# Altium schematic symbol library robot-cortex.SchLib: 41 symbols
Pins are listed as number, name and electrical type; pins without a type are passive.

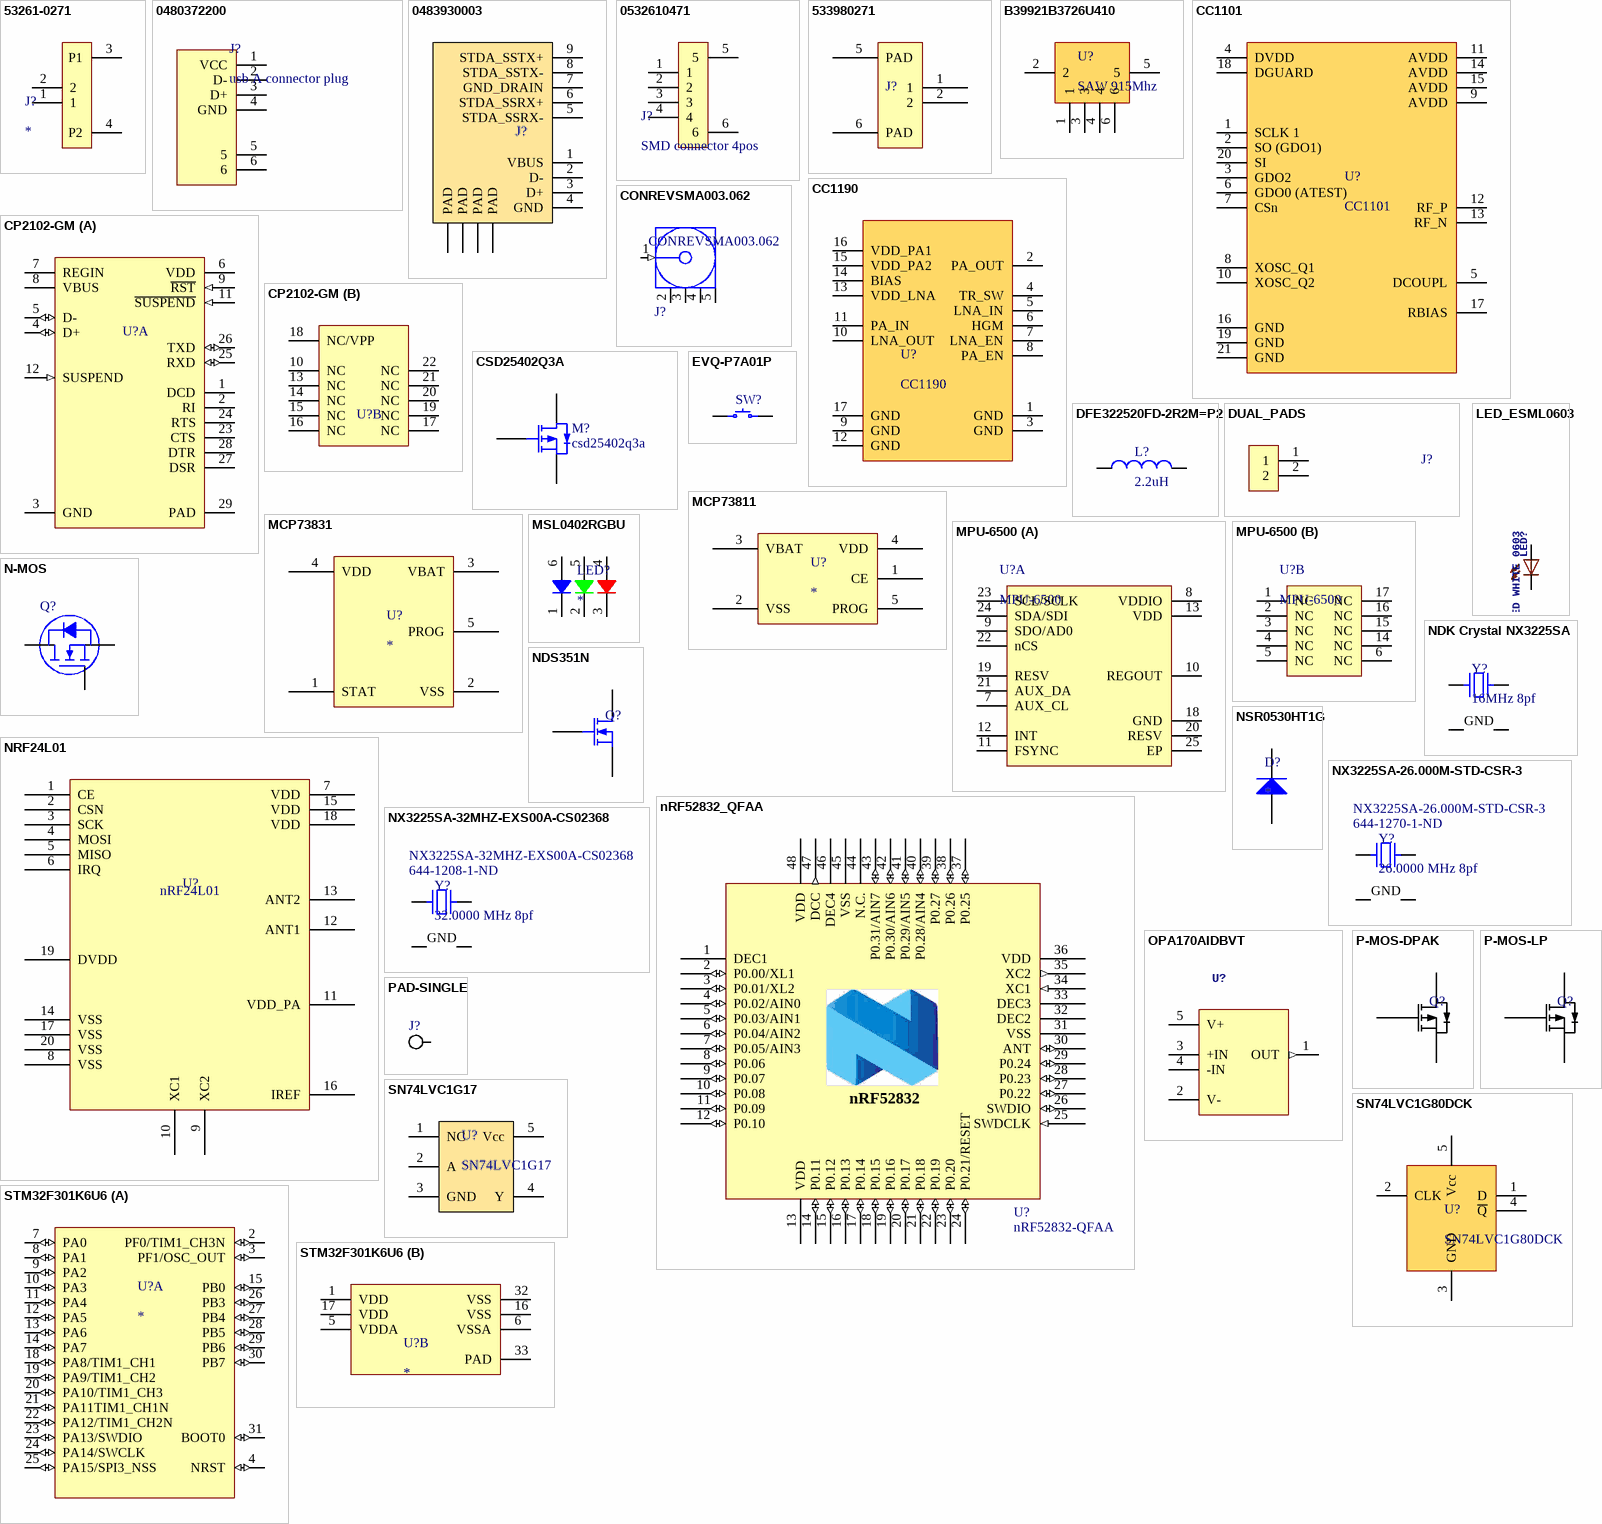
[diagram p0: symbols 53261-0271 to STM32F301K6U6]

## 53261-0271
designator J?
Headers & Wire Housings 1.25MM HDR 2 CKT Right-Angle; Manufacturer: Molex; Manufacturer Part Number 1: 53261-0271; Gender: Male; Voltage Rating: 125V; Number of Positions: 2; Current Rating: 1A; Contact Resistance: 20mR; Insulation Resistance: 100MR; Glow Wire Compliant: Non-compliant; Supplier 1: Digi-Key; Supplier Part Number 1: WM7620TR-ND; Description 1: Headers & Wire Housings 1.25MM HDR 2 CKT Right-Angle; Stock: 85000; Pricing: 1000=0.4904, 2000=0.45975, 3000=0.44443, 5000=0.4291, 10000=0.40765, 25000=0.39845 (USD); Mount: Surface Mount; Color: Beige; Housing Material: Thermoplastic; Contact Material: Bronze,Tin; Contact Plating: Tin; Min Operating Temperature: -40°C; Max Operating Temperature: 85°C; Packaging: Tape and Reel; Termination: SMD/SMT; Number of Rows: 1; Number of Contacts: 2; Orientation: Right Angle; Package Quantity: 1000; Voltage Rating (AC): 125V; Number of Circuits: 2; Voltage Rating (DC): 125V; Working Voltage: 125V; Pitch: 1.25mm; Lead Pitch: 1.25mm; Radiation Hardening: No; REACH SVHC: Unknown; Lead Free: Lead Free; Flammability Rating: UL94 V-0; ComponentLink1URL: http://uk.rs-online.com/webdocs/13c4/0900766b813c44b8.pdf; ComponentLink1Description: http://uk.rs-online.com/webdocs/13c4/0900766b813c44b8.pdf; ComponentLink2URL: http://www.molex.com/webdocs/datasheets/pdf/en-us/0532610271_PCB_HEADERS.pdf; ComponentLink2Description: http://www.molex.com/webdocs/datasheets/pdf/en-us/0532610271_PCB_HEADERS.pdf; ComponentLink3URL: http://www.alliedelec.com/m/d/74d14d19c60ab078e4881c4c1bd42ef7.pdf; ComponentLink3Description: http://www.alliedelec.com/m/d/74d14d19c60ab078e4881c4c1bd42ef7.pdf; ComponentLink4URL: http://www.farnell.com/datasheets/2697765.pdf; ComponentLink4Description: http://www.farnell.com/datasheets/2697765.pdf; ComponentLink5URL: http://www.farnell.com/datasheets/2144535.pdf; ComponentLink5Description: http://www.farnell.com/datasheets/2144535.pdf; ComponentLink6URL: http://www.farnell.com/datasheets/1626147.pdf; ComponentLink6Description: http://www.farnell.com/datasheets/1626147.pdf; ComponentLink7URL: http://www.mouser.com/ds/2/276/0532610271_PCB_HEADERS-171053.pdf; ComponentLink7Description: http://www.mouser.com/ds/2/276/0532610271_PCB_HEADERS-171053.pdf; ComponentLink8URL: http://www.farnell.com/datasheets/2038817.pdf; ComponentLink8Description: http://www.farnell.com/datasheets/2038817.pdf; ComponentLink9URL: http://www.jameco.com/Jameco/Products/ProdDS/1932547.pdf; ComponentLink9Description: http://www.jameco.com/Jameco/Products/ProdDS/1932547.pdf
footprint 0532610271
footprint 533980271
pins: 1 (power), 2 (power), 3 P1 (power), 4 P2 (power)

## 0480372200
designator J?, comment usb A connector plug
footprint 0480372200
pins: 1 VCC, 2 D-, 3 D+, 4 GND, 5, 6

## 0483930003
designator J?  (value not drawn)
Conn USB Type A F 9 POS 2mm/2.5mm Solder RA Thru-Hole 9 Terminal 1 Port Embossed T/R; Manufacturer: Molex; Number of Contacts: 9; Gender: Receptacle; Supplier 1: Digi-Key; Manufacturer Part Number: 0483930003; RoHS: Yes; Category: Connectors; Stock 1: 7788; Pricing 1: 1=1.74000, 10=1.57900, 25=1.48240, 50=1.41780, 100=1.35340 (USD); Mount: Through Hole,Horizontal; Packaging: Tape and Reel; Termination: Solder; Orientation: Right Angle; Connector Type: USB; Package Quantity: 300; Radiation Hardening: No; ComponentLink1URL: https://datasheet.ciiva.com/29660/987651-0181-29660134.pdf?src-supplier=Digi-Key; ComponentLink1Description: https://datasheet.ciiva.com/29660/987651-0181-29660134.pdf?src-supplier=Digi-Key; ComponentLink2URL: https://datasheet.ciiva.com/29660/987651-0181-29660135.pdf?src-supplier=Digi-Key; ComponentLink2Description: https://datasheet.ciiva.com/29660/987651-0181-29660135.pdf?src-supplier=Digi-Key; Supplier Part Number 1: WM10413CT-ND
footprint 0483930003
pins: 1 VBUS, 2 D-, 3 D+, 4 GND, 5 STDA_SSRX-, 6 STDA_SSRX+, 7 GND_DRAIN, 8 STDA_SSTX-, 9 STDA_SSTX+, 10 PAD, 11 PAD, 12 PAD, 13 PAD

## 0532610471
designator J?, comment SMD connector 4pos
Headers & Wire Housings 1.25MM HDR 4 CKT Right-Angle; Manufacturer: Molex; Manufacturer Part Number 1: 53261-0471; Contact Resistance: 20mR; Number of Positions: 4; Current Rating: 1A; Voltage Rating (AC): 125V; Insulation Resistance: 100MR; Gender: Male; Glow Wire Compliant: Non-compliant; Supplier 1: Digi-Key; Supplier Part Number 1: WM7622DKR-ND; Description 1: Headers & Wire Housings 1.25MM HDR 4 CKT Right-Angle; Stock: 42057; Pricing: 1=1.24, 10=1.089, 100=0.9397, 500=0.76884 (USD); Mount: Surface Mount; Contact Plating: Tin; Contact Material: Bronze,Tin; Color: Beige; Housing Material: Thermoplastic; Min Operating Temperature: -40°C; Max Operating Temperature: 85°C; Orientation: Right Angle; Number of Rows: 1; Packaging: Tape and Reel; Termination: SMD/SMT; Number of Contacts: 4; Voltage Rating: 125V; Package Quantity: 1000; Working Voltage: 125V; Number of Circuits: 4; Voltage Rating (DC): 125V; Pitch: 1.25mm; Lead Pitch: 1.25mm; Radiation Hardening: No; Flammability Rating: UL94 V-0; REACH SVHC: Unknown; Lead Free: Lead Free; ComponentLink1URL: http://www.mouser.com/ds/2/276/0532610471_PCB_HEADERS-170942.pdf; ComponentLink1Description: http://www.mouser.com/ds/2/276/0532610471_PCB_HEADERS-170942.pdf; ComponentLink2URL: http://uk.rs-online.com/webdocs/1380/0900766b8138010d.pdf; ComponentLink2Description: http://uk.rs-online.com/webdocs/1380/0900766b8138010d.pdf; ComponentLink3URL: http://www.farnell.com/datasheets/1867384.pdf; ComponentLink3Description: http://www.farnell.com/datasheets/1867384.pdf; ComponentLink4URL: http://www.molex.com/webdocs/datasheets/pdf/en-us/0532610471_PCB_HEADERS.pdf; ComponentLink4Description: http://www.molex.com/webdocs/datasheets/pdf/en-us/0532610471_PCB_HEADERS.pdf; ComponentLink5URL: https://www.alliedelec.com/m/d/74d14d19c60ab078e4881c4c1bd42ef7.pdf; ComponentLink5Description: https://www.alliedelec.com/m/d/74d14d19c60ab078e4881c4c1bd42ef7.pdf; ComponentLink6URL: http://www.jameco.com/Jameco/Products/ProdDS/1932555.pdf; ComponentLink6Description: http://www.jameco.com/Jameco/Products/ProdDS/1932555.pdf
footprint 0532610471
pins: 1 (power), 2 (power), 3 (power), 4 (power), 5 (power), 6 (power)

## 533980271
designator J?, comment 4p conn  (value not drawn)
footprint 533980271
pins: 1, 2, 5 PAD, 6 PAD

## B39921B3726U410
designator U?, comment SAW 915Mhz
FILTER SAW 915MHZ REMOTE SMD; Manufacturer: TDK EPCOS; Manufacturer Part Number: B39921B3726U410; Load Impedance: 50R; Bandwidth: 10MHz; Insertion Loss: 2.6dB; Supplier 1: Newark; RoHS: Yes; Category: EMI / RFI Components; Mount: Surface Mount; Case/Package: SMD/SMT; Number of Pins: 6; Min Operating Temperature: -45°C; Max Operating Temperature: 125°C; Package Quantity: 9000; Frequency: 915MHz; Impedance: 50R; Packaging: Tape and Reel; Termination: SMD/SMT; Series: *; Length: 3mm; Width: 0.118inch; Height: 1.1mm; Ratings: AEC-Q200; Radiation Hardening: No; Lead Free: Lead Free; ComponentLink1URL: https://datasheet.ciiva.com/3073/b3726-3073185.pdf?src-supplier=Avnet; ComponentLink1Description: https://datasheet.ciiva.com/3073/b3726-3073185.pdf?src-supplier=Avnet; ComponentLink2URL: https://datasheet.ciiva.com/4548/b3726-58910-4548209.pdf?src-supplier=Mouser; ComponentLink2Description: https://datasheet.ciiva.com/4548/b3726-58910-4548209.pdf?src-supplier=Mouser; ComponentLink3URL: https://datasheet.ciiva.com/15161/getdatasheetpartid-330732-15161563.pdf?src-supplier=Verical; ComponentLink3Description: https://datasheet.ciiva.com/15161/getdatasheetpartid-330732-15161563.pdf?src-supplier=Verical; ComponentLink4URL: https://datasheet.ciiva.com/16628/b3726-16628731.pdf?src-supplier=Avnet+Europe; ComponentLink4Description: https://datasheet.ciiva.com/16628/b3726-16628731.pdf?src-supplier=Avnet+Europe; ComponentLink5URL: https://datasheet.ciiva.com/6203/b3726-6203485.pdf?src-supplier=Digi-Key; ComponentLink5Description: https://datasheet.ciiva.com/6203/b3726-6203485.pdf?src-supplier=Digi-Key; Supplier Part Number 1: 50R8492
footprint DCC6C
pins: 1, 2, 3, 4, 5, 6

## CC1101
designator U?
RF Transceiver IC
footprint QFN20-TI (PQFN, 20-Leads, Body 4.00x4.00mm, Pitch 0.50mm, Thermal Pad 2.40x2.40mm, IPC High Density)
pins: 1 SCLK 1, 2 SO (GDO1), 3 GDO2, 4 DVDD, 5 DCOUPL, 6 GDO0 (ATEST), 7 CSn, 8 XOSC_Q1, 9 AVDD, 10 XOSC_Q2, 11 AVDD, 12 RF_P, 13 RF_N, 14 AVDD, 15 AVDD, 16 GND, 17 RBIAS, 18 DGUARD, 19 GND, 20 SI, 21 GND

## CC1190
designator U?
RF frontend
footprint QFN16-TI (PQFN, 16-Leads, Body 4.00x4.00mm, Pitch 0.65mm, Thermal Pad 2.16x2.16mm, IPC High Density)
pins: 1 GND, 2 PA_OUT, 3 GND, 4 TR_SW, 5 LNA_IN, 6 HGM, 7 LNA_EN, 8 PA_EN, 9 GND, 10 LNA_OUT, 11 PA_IN, 12 GND, 13 VDD_LNA, 14 BIAS, 15 VDD_PA2, 16 VDD_PA1, 17 GND

## CONREVSMA003.062
designator J?
RP-SMA Female Edge Mount Connector for 0.062" Thick Board; PCB_Layout: Pads complies with manufacturer's recommendation.; PackageVersion: rev1.0, Jun-2006; DatasheetVersion: rev1.0, Jun-2006; PackageDescription: SMA Female Edge Mount for Connector 0.062" Thick Board, Reverse-polarity, 7.9 mm Body Dia.; PackageReference: CON-SMA-EDGE062; PartNumber: CONREVSMA003.062
footprint CON-SMA-EDGE062
pins: 1 Signal (in) "Signal Pin", 2 GND (power), 3 GND (power), 4 GND (power), 5 GND (power)

## CP2102-GM
designator U?  (value not drawn)
USB-UART Bridge
footprint QFN28 (QFN, 28-Leads, Body 5.00x5.00mm, Pitch 0.50mm, Thermal Pad 3.13x3.13mm, IPC High Density)
part A pins: 1 DCD (power), 2 RI (power), 3 GND (power), 4 D+ (io), 5 D- (io), 6 VDD (power), 7 REGIN (power), 8 VBUS (power), 9 ~{RST} (in), 11 ~{SUSPEND} (in), 12 SUSPEND (in), 23 CTS (power), 24 RTS (power), 25 RXD (io), 26 TXD (io), 27 DSR (power), 28 DTR (power), 29 PAD (power)
part B pins: 10 NC (power), 13 NC (power), 14 NC (power), 15 NC (power), 16 NC (power), 17 NC (power), 18 NC/VPP (power), 19 NC (power), 20 NC (power), 21 NC (power), 22 NC (power)

## CSD25402Q3A
designator M?, comment csd25402q3a
footprint SON65P330X90-8N (SON, 8-Leads, Body 3.15x3.30mm, Pitch 0.65mm, IPC Medium Density)
pins: 1 D, 2 G, 3 S

## DFE322520FD-2R2M=P2
designator L?, comment 2.2uH
2.2uH 1210
footprint L1210 (Chip Inductor, 2-Leads, Body 3.20x2.50mm, IPC High Density)
pins: 1, 2

## DUAL_PADS
designator J?, comment Header 2  (value not drawn)
footprint DUAL_PADS
pins: 1 (power), 2 (power)

## EVQ-P7A01P
designator SW?
SWITCH TACTILE SPST-NO 50MA 32V; Manufacturer: ITT C&K; Manufacturer Part Number: KMR742NGLFS; Mechanical Life: 200000Cycles; Illumination Type: Non-Illuminated; Operating Force: 400gf; Throw Configuration: SPST; Switch Function: Off-Mom; Actuator Type: Standard; Ratings: IP67,Waterproof,Dust Tight; Supplier 1: Digi-Key; Supplier Part Number 1: CKN10689CT-ND; Stock 1: 44684; Pricing 1: 1=0.35, 10=0.343, 25=0.3304, 50=0.3182, 100=0.306, 250=0.28152, 500=0.24482, 1000=0.20809 (USD); Mount: Surface Mount; Min Operating Temperature: -40°C; Max Operating Temperature: 85°C; Packaging: Tape and Reel; Termination: Gull Wing
footprint EVQ-P7A01P
pins: 1, 2

## LED_ESML0603
designator LED?, comment LED WHITE 0603
LED   Source: http://www.osram.convergy.de   Source: www.luxeon.com   Source: www.kingbright.com; Manufacturer: Dialight; Manufacturer Part Number: 5988070107F; Description 1: DIALIGHT - 5988070107F - LED, 0603, GREEN, 20MCD, 566NM; Color: Green; Lens Color: Colorless,Clear; Forward Voltage: 2V; Forward Current: 20mA; Wavelength: 570nm; Luminous Intensity: 20mcd; Viewing Angle: 140°; Lens Style: Flat,Rectangular,Diffused,Colorless,Clear; Dominant Wavelength: 568nm; Number of Elements: 1; Power Dissipation: 60mW; Reverse Voltage: 5V; Lens Transparency: Clear; Lens Size: 0.8mm; SPICEMODEL: NONE; SPICEPREFIX: D; SPICETYPE: diode; Supplier 1: Digi-Key; Supplier Part Number 1: 350-2035-6-ND; Stock: 221494; Pricing: 1=0.48, 10=0.346, 25=0.2652, 100=0.1731, 250=0.12692, 500=0.1077, 1000=0.08846 (USD); Mount: Surface Mount; Case/Package: 0603; Number of Pins: 2; Case Code (Metric): 1608; Case Code (Imperial): 0603; Min Operating Temperature: -30°C; Max Operating Temperature: 100°C; Package Quantity: 4000; Packaging: Tape and Reel; Illumination Color: Green; Test Current: 20mA; Number of LEDs: 1; Length: 1.6mm; Height: 0.7mm; Depth: 0.8mm; Width: 0.8mm; Radiation Hardening: No; Lead Free: Lead Free; REACH SVHC: No SVHC; ComponentLink1URL: http://www.mouser.com/ds/2/109/SMT_selector_guide-267443.pdf?src-supplier=Mouser; ComponentLink1Description: http://www.mouser.com/ds/2/109/SMT_selector_guide-267443.pdf?src-supplier=Mouser; ComponentLink2URL: http://uk.rs-online.com/webdocs/0ae2/0900766b80ae2975.pdf?src-supplier=RSComponents; ComponentLink2Description: http://uk.rs-online.com/webdocs/0ae2/0900766b80ae2975.pdf?src-supplier=RSComponents; ComponentLink3URL: http://www.farnell.com/datasheets/1720200.pdf?src-supplier=Element14; ComponentLink3Description: http://www.farnell.com/datasheets/1720200.pdf?src-supplier=Element14; ComponentLink4URL: https://media.digikey.com/pdf/Data%20Sheets/Dialight%20PDFs/598_Series_0603_Pkg.pdf?src-supplier=Digi-Key; ComponentLink4Description: https://media.digikey.com/pdf/Data%20Sheets/Dialight%20PDFs/598_Series_0603_Pkg.pdf?src-supplier=Digi-Key; ComponentLink5URL: http://www.farnell.com/datasheets/1484480.pdf?src-supplier=Element14; ComponentLink5Description: http://www.farnell.com/datasheets/1484480.pdf?src-supplier=Element14; ComponentLink6URL: https://www.alliedelec.com/m/d/745256ca487aea7b70ea31e2d673d5bb.pdf?src-supplier=Allied+Electronics; ComponentLink6Description: https://www.alliedelec.com/m/d/745256ca487aea7b70ea31e2d673d5bb.pdf?src-supplier=Allied+Electronics; ComponentLink7URL: http://www.onlinecomponents.com/productFiles/mf-DIA/mdei5980603.pdf?src-supplier=Onlinecomponents.com; ComponentLink7Description: http://www.onlinecomponents.com/productFiles/mf-DIA/mdei5980603.pdf?src-supplier=Onlinecomponents.com; ComponentLink8URL: https://www.verical.com/server-webapp/html/getDatasheet?partID=146438&src-supplier=Verical; ComponentLink8Description: https://www.verical.com/server-webapp/html/getDatasheet?partID=146438&src-supplier=Verical; ComponentLink9URL: http://www.dialight.com/Assets/Brochures_And_Catalogs/Indication/SMT_selector_guide.pdf?src-supplier=Future+Electronics; ComponentLink9Description: http://www.dialight.com/Assets/Brochures_And_Catalogs/Indication/SMT_selector_guide.pdf?src-supplier=Future+Electronics
footprint LED_0603
pins: A, C

## MCP73811
designator U?
footprint SOT-23-5 (SOT23, 5-Leads, Body 2.90x2.70mm, Pitch 0.95mm, IPC High Density)
pins: 1 CE, 2 VSS, 3 VBAT, 4 VDD, 5 PROG

## MCP73831
designator U?
footprint SOT-23-5 (SOT23, 5-Leads, Body 2.90x2.70mm, Pitch 0.95mm, IPC High Density)
pins: 1 STAT, 2 VSS, 3 VBAT, 4 VDD, 5 PROG

## MPU-6500
designator U?
GYRO/ACCELEROMETER 6AXIS 24QFN; Manufacturer: TDK InvenSense; Sensor Type: Accelerometer,Gyroscope; Output Type: Digital; Operating Supply Voltage: 3.45V; Supplier 1: Digi-Key; Supplier Part Number 1: 1428-1011-1-ND; Manufacturer Part Number: MPU-6500; Stock 1: 29119; Pricing 1: 1=8.31, 5=7.288, 10=6.559, 25=5.83, 50=5.3928, 100=4.664, 500=4.3725, 1000=4.081 (USD); Mount: Surface Mount; Case/Package: QFN; Number of Pins: 24; Min Operating Temperature: -40°C; Max Operating Temperature: 85°C; Package Quantity: 5000; ComponentLink1URL: http://store.invensense.com/Datasheets/invensense/RM-MPU-6500A-00.pdf; ComponentLink1Description: http://store.invensense.com/Datasheets/invensense/RM-MPU-6500A-00.pdf
footprint QFN24 (QFN, 24-Leads, Body 3.00x3.00mm, Pitch 0.40mm, Thermal Pad 1.54x1.70mm, IPC Medium Density)
part A pins: 7 AUX_CL, 8 VDDIO, 9 SDO/AD0, 10 REGOUT, 11 FSYNC, 12 INT, 13 VDD, 18 GND, 19 RESV, 20 RESV, 21 AUX_DA, 22 nCS, 23 SCL/SCLK, 24 SDA/SDI, 25 EP
part B pins: 1 NC, 2 NC, 3 NC, 4 NC, 5 NC, 6 NC, 14 NC, 15 NC, 16 NC, 17 NC

## MSL0402RGBU
designator LED?
ROHM         MSL0402RGBU1             LED, Red, Green, Blue, SMD, Rectangular, R 20mA, G 20mA, B 20mA                          New; Color: Blue,Green,Red; Supplier 1: Digi-Key; Supplier Part Number 1: MSL0402RGBU1CT-ND; Manufacturer: Rohm; Manufacturer Part Number: MSL0402RGBU1; Stock 1: 23725; Pricing 1: 1=0.7, 10=0.549, 25=0.4576, 100=0.3942, 250=0.352, 500=0.30272, 1000=0.23373 (USD); Lens Style: Rectangular; Packaging: Cut Tape; REACH SVHC: No SVHC; Lead Free: Lead Free
footprint MSL0402RGBU
pins: 1, 2, 3 2, 4, 5, 6

## N-MOS
designator Q?, comment HP-MOS  (value not drawn)
Originally design used: CSD17577Q3A / Superior TI choice: CSD17579Q3A / Cheapest Option: AON7400B; Manufacturer: Alpha & Omega Semiconductor; Description 1: MOSFET N-CH 30V 30A 8DFN; Rds On Max: 7.5mR; Input Capacitance: 1.44nF; Drain to Source Voltage (Vdss): 30V; Continuous Drain Current (ID): 40A; Max Power Dissipation: 4.1W; Supplier 1: Digi-Key; Supplier Part Number 1: 785-1677-6-ND; Manufacturer Part Number: AON7400B; Stock: 5413; Pricing: 1=0.53, 10=0.415, 100=0.2848, 500=0.19528, 1000=0.14647, 2500=0.13426 (USD); Mount: Surface Mount; Min Operating Temperature: -55°C; Max Operating Temperature: 150°C; Package Quantity: 5000; Packaging: Tape and Reel; ComponentLink1URL: http://aosmd.com/res/data_sheets/AON7400B.pdf?src-supplier=Digi-Key; ComponentLink1Description: http://aosmd.com/res/data_sheets/AON7400B.pdf?src-supplier=Digi-Key
footprint VSON-8-NFET (QFN, 8-Leads, Body 3.30x3.30mm, Pitch 0.65mm, IPC High Density)
pins: D, G, S

## NDK Crystal NX3225SA
designator Y?, comment 16MHz 8pf
SMT Crystal; Manufacturer: NDK; Manufacturer Part Number: NX3225SA-16.000000MHZ-T1; Description 2: CRYSTAL 16.0000MHZ 10PF SMD; Frequency Tolerance: 10ppm; Load Capacitance: 10pF; ESR (Equivalent Series Resistance): 80R; Supplier 1: Digi-Key; Supplier Part Number 1: 644-1049-1-ND; Supplier 2: Digi-Key; Supplier Part Number 2: 644-1100-6-ND; Stock: 72540; Pricing: 1=0.92, 10=0.812, 50=0.7592, 100=0.6709, 500=0.63558, 1000=0.52965 (USD); Mount: Surface Mount; Case/Package: SMD/SMT; Min Operating Temperature: -20°C; Max Operating Temperature: 70°C; Frequency: 16MHz; Frequency Stability: 10ppm; Packaging: Tape and Reel; Package Quantity: 3000; Length: 0.126inch; Height: 0.028inch; Width: 0.098inch; Lead Free: Lead Free; ComponentLink1URL: https://media.digikey.com/pdf/Data Sheets/NDK PDFs/NX3225SA-16.000000MHz-T1.pdf?src-supplier=Digi-Key; ComponentLink1Description: https://media.digikey.com/pdf/Data Sheets/NDK PDFs/NX3225SA-16.000000MHz-T1.pdf?src-supplier=Digi-Key
footprint NDK NX3225GA (Crystal, 4-Leads, Body 2.50x3.20mm, Pitch 2.20mm, IPC Medium Density)
pins: 1, 2 GND, 3, 4 GND

## NDS351N
designator Q?, comment n-mos low power  (value not drawn)
Manufacturer: ON Semiconductor / Fairchild; Manufacturer Part Number: NDS351N; Rds On Max: 160mR; Input Capacitance: 140pF; Drain to Source Voltage (Vdss): 30V; Continuous Drain Current (ID): 1.1A; Max Power Dissipation: 460mW; Gate to Source Voltage (Vgs): 20V; Power Dissipation: 500mW; Element Configuration: Single; Rise Time: 16ns; Turn-Off Delay Time: 26ns; Number of Elements: 1; Turn-On Delay Time: 9ns; Supplier 1: Mouser; Stock 1: 2166; Pricing 1: 1=0.46, 10=0.383, 50=0.383, 100=0.234, 1000=0.181, 10000=0.144 (USD); Mount: Surface Mount; Case/Package: TO-236-3; Number of Pins: 3; Weight: 0.03g; Min Operating Temperature: -55°C; Max Operating Temperature: 150°C; Package Quantity: 1; Packaging: Tape and Reel; Drain to Source Breakdown Voltage: 30V; Drain to Source Resistance: 160mR; Fall Time: 16ns; Current Rating: 1.1A; Voltage Rating (DC): 30V; Radiation Hardening: No; Lead Free: Contains Lead; ComponentLink1URL: https://www.verical.com/server-webapp/html/getDatasheet?partID=96049&src-supplier=Verical; ComponentLink1Description: https://www.verical.com/server-webapp/html/getDatasheet?partID=96049&src-supplier=Verical; ComponentLink2URL: https://www.fairchildsemi.com/package-drawings/MA/MA03B.pdf?src-supplier=Digi-Key; ComponentLink2Description: https://www.fairchildsemi.com/package-drawings/MA/MA03B.pdf?src-supplier=Digi-Key; ComponentLink3URL: http://www.fairchildsemi.com/ds/ND/NDS351N.pdf?src-supplier=Avnet+Europe; ComponentLink3Description: http://www.fairchildsemi.com/ds/ND/NDS351N.pdf?src-supplier=Avnet+Europe; ComponentLink4URL: http://www.fairchildsemi.com/ds/ND/NDS351N.pdf?src-supplier=Avnet; ComponentLink4Description: http://www.fairchildsemi.com/ds/ND/NDS351N.pdf?src-supplier=Avnet
footprint SOT-23-3 (SOT23, 3-Leads, Body 2.95x2.80mm, Pitch 0.95mm, IPC High Density)
pins: 1 G, 2 S, 3 D

## NRF24L01
designator U?
2.4GHz radio module
footprint QFN20 (QFN, 20-Leads, Body 4.00x4.00mm, Pitch 0.50mm, Thermal Pad 2.60x2.60mm, IPC High Density)
pins: 1 CE, 2 CSN, 3 SCK, 4 MOSI, 5 MISO, 6 IRQ, 7 VDD, 8 VSS, 9 XC2, 10 XC1, 11 VDD_PA, 12 ANT1, 13 ANT2, 14 VSS, 15 VDD, 16 IREF, 17 VSS, 18 VDD, 19 DVDD, 20 VSS
text: nRF24L01

## nRF52832_QFAA
designator U?, comment nRF52832-QFAA
Multi-protocol Bluetooth Low Energy, ANT and 2.4GHz proprietary system-on-chip; Manufacturer: Nordic Semiconductor; Artikkelnr Noca: N.A.; Part Number: nRF52832-QFAA; Manufacturer Part Number: nRF52832-QFAA; Datasheet: *; LatestRevisionDate: 2014-11-26; Pin Count: 48; Publisher: Nordic Semiconductor; Published: 2014-11-26; Value: nRF52832-QFAA; Note: *; Supplier: Nordic Semiconductor; Supplier part number: *; 2nd source Supplier: *; 2nd source part number: *; Footprint Doc: QFN-48; Artikkelnr Simpro: N.A.
footprint QFN40P600X600X90-48N
pins: 1 DEC1 (power), 2 P0.00/XL1 (io), 3 P0.01/XL2 (io), 4 P0.02/AIN0 (io), 5 P0.03/AIN1 (io), 6 P0.04/AIN2 (io), 7 P0.05/AIN3 (io), 8 P0.06 (io), 9 P0.07 (io), 10 P0.08 (io), 11 P0.09 (io), 12 P0.10 (io), 13 VDD (power), 14 P0.11 (io), 15 P0.12 (io), 16 P0.13 (io), 17 P0.14 (io), 18 P0.15 (io), 19 P0.16 (io), 20 P0.17 (io), 21 P0.18 (io), 22 P0.19 (io), 23 P0.20 (io), 24 P0.21/RESET (io), 25 SWDCLK (in), 26 SWDIO (io), 27 P0.22 (io), 28 P0.23 (io), 29 P0.24 (io), 30 ANT (io), 31 VSS (power), 32 DEC2 (power), 33 DEC3 (power), 34 XC1 (in), 35 XC2 (out), 36 VDD (power), 37 P0.25 (io), 38 P0.26 (io), 39 P0.27 (io), 40 P0.28/AIN4 (io), 41 P0.29/AIN5 (io), 42 P0.30/AIN6 (io), 43 P0.31/AIN7 (io), 44 N.C. (power), 45 VSS (power), 46 DEC4 (power), 47 DCC (out), 48 VDD (power), 49 GND (power) hidden to GND
text: nRF52832

## NSR0530HT1G
designator D?
DIODE SCHOTTKY 30V 500MA SOD323; Manufacturer: ON Semiconductor; Manufacturer Part Number: NSR0530HT1G; Forward Voltage: 620mV; Peak Reverse Current: 200uA; Element Configuration: Single; Supplier 1: Digi-Key; Supplier Part Number 1: NSR0530HT1GOSCT-ND; Stock 1: 163499; Pricing 1: 1=0.16, 10=0.149, 100=0.081, 500=0.04986, 1000=0.03399 (USD); Mount: Surface Mount; Case/Package: SOD; Number of Pins: 2; Contact Plating: Tin; Min Operating Temperature: -55°C; Max Operating Temperature: 150°C; Packaging: Cut Tape; Average Rectified Current: 500mA; Max Repetitive Reverse Voltage (Vrrm): 30V; Forward Current: 500mA; Max Reverse Voltage (DC): 30V; REACH SVHC: No SVHC; Lead Free: Lead Free
footprint SOD-323 (SODFL, 2-Leads, Body 1.25x2.50mm, IPC High Density)
pins: 1 A, 2 K

## NX3225SA-26.000M-STD-CSR-3
designator Y?, comment 26.0000 MHz 8pf  Supplier Part Number 1: 644-1270-1-ND  Manufacturer Part Number: NX3225SA-26.000M-STD-CSR-3
Crystal 26MHz 8pF 4-Pin SMD; Manufacturer: NDK; ESR (Equivalent Series Resistance): 50R; Frequency Stability: 15ppm; Supplier 1: Digi-Key; RoHS: Yes; Category: Crystals; Stock 1: 11873; Pricing 1: 1=0.99000, 10=0.87400, 50=0.81700, 100=0.72200, 500=0.68400, 1000=0.57000 (USD); Mount: Surface Mount; Case/Package: SMD/SMT; Number of Pins: 4; Min Operating Temperature: -10°C; Max Operating Temperature: 75°C; Frequency: 26MHz; Packaging: Tape and Reel; Load Capacitance: 8pF; Frequency Tolerance: 15ppm; Length: 0.126inch; Width: 0.098inch; Height: 0.024inch; Lead Free: Lead Free; ComponentLink1URL: https://datasheet.ciiva.com/18026/getdatasheetpartid-683563-18026983.pdf?src-supplier=Verical; ComponentLink1Description: https://datasheet.ciiva.com/18026/getdatasheetpartid-683563-18026983.pdf?src-supplier=Verical
footprint NDK NX3225GA (Crystal, 4-Leads, Body 2.50x3.20mm, Pitch 2.20mm, IPC Medium Density)
pins: 1, 2 GND, 3, 4 GND

## NX3225SA-32MHZ-EXS00A-CS02368
designator Y?, comment 32.0000 MHz 8pf  Supplier Part Number 1: 644-1208-1-ND  Manufacturer Part Number: NX3225SA-32MHZ-EXS00A-CS02368
CRYSTAL 32.0000MHZ 9PF SMD; Manufacturer: NDK; Frequency: 32MHz; Frequency Tolerance: 10ppm; ESR (Equivalent Series Resistance): 50R; Frequency Stability: 16ppm; ComponentLink1URL: https://datasheet.ciiva.com/18026/getdatasheetpartid-683563-18026983.pdf?src-supplier=Verical; ComponentLink1Description: https://datasheet.ciiva.com/18026/getdatasheetpartid-683563-18026983.pdf?src-supplier=Verical; Supplier 1: Digi-Key; RoHS: Yes; Category: Crystals; Stock 1: 6900; Pricing 1: 1=0.75000, 10=0.66200, 50=0.61920, 100=0.54720, 500=0.51840, 1000=0.43200 (USD); Mount: Surface Mount; Case/Package: SMD/SMT; Min Operating Temperature: -40°C; Max Operating Temperature: 85°C; Package Quantity: 1; Packaging: Cut Tape; Load Capacitance: 9pF; Series: NX3225SA; Length: 0.126inch; Width: 0.098inch; Height: 0.022inch; ComponentLink2URL: https://datasheet.ciiva.com/15047/nx3225sa20exs00a-cs02368-15047029.pdf?src-supplier=Digi-Key; ComponentLink2Description: https://datasheet.ciiva.com/15047/nx3225sa20exs00a-cs02368-15047029.pdf?src-supplier=Digi-Key; ComponentLink3URL: https://datasheet.ciiva.com/15047/nx3225saexs00a-cs02368-15047030.pdf?src-supplier=Digi-Key; ComponentLink3Description: https://datasheet.ciiva.com/15047/nx3225saexs00a-cs02368-15047030.pdf?src-supplier=Digi-Key; ComponentLink4URL: https://datasheet.ciiva.com/15047/nx3225saexs00a-cs02368-15047031.pdf?src-supplier=Digi-Key; ComponentLink4Description: https://datasheet.ciiva.com/15047/nx3225saexs00a-cs02368-15047031.pdf?src-supplier=Digi-Key
footprint NDK NX3225GA (Crystal, 4-Leads, Body 2.50x3.20mm, Pitch 2.20mm, IPC Medium Density)
pins: 1, 2 GND, 3, 4 GND

## OPA170AIDBVT
designator U?  (value not drawn)
OPERATIONAL AMPLIFIERS; MPN: OPA170AIDBVT; OC_FARNELL: 2057089; OC_NEWARK: 64T3747; PACKAGE: SOT-23-5; SUPPLIER: Texas Instruments
footprint DBV-SOT-23 (SOT23, 5-Leads, Body 2.90x2.80mm, Pitch 0.95mm, IPC High Density)
pins: 1 OUT (out), 2 V-, 3 +IN, 4 -IN, 5 V+ (power)

## P-MOS-DPAK
designator Q?, comment High power mosfet  (value not drawn)
footprint DPAK
pins: 1 G, 3 S, 4 D

## P-MOS-LP
designator Q?, comment High power mosfet  (value not drawn)
footprint VSON-8-FET (QFN, 8-Leads, Body 3.30x3.30mm, Pitch 0.65mm, IPC High Density)
pins: D, G, S

## PAD-SINGLE
designator J?  (value not drawn)
Single Thru Hole Pad
footprint PAD-SINGLE
footprint PAD-1p2x1p75
pins: 1

## SN74LVC1G17
designator U?
TEXAS INSTRUMENTS - SN74LVC1G17DBVR - Buffer, 74LVC1G17, 1.65 V to 5.5 V, SOT-23-5; Logic Function: Schmitt Trigger,Buffer; Max Supply Voltage: 5.5V; Min Supply Voltage: 1.65V; Number of Elements: 1; Low Level Output Current: 32mA; Polarity: Non-Inverting; Propagation Delay: 5ns; High Level Output Current: -32mA; Turn-On Delay Time: 11ns; Quiescent Current: 1.5uA; Schmitt Trigger Input: Yes; Supplier 1: Digi-Key; Manufacturer: Texas Instruments; RoHS: Yes; Category: Buffers, Drivers and Transceivers; Stock 1: 149811; Pricing 1: 1=0.32000, 10=0.26200, 25=0.21960, 100=0.13900, 250=0.10728, 500=0.09142, 1000=0.06217 (USD); Mount: Surface Mount; Case/Package: SOT-23; Number of Pins: 5; Contact Plating: Tin,Matte; Min Operating Temperature: -40°C; Max Operating Temperature: 125°C; Packaging: Tape and Reel; Package Quantity: 3000; Number of Bits per Element: 1; Number of Bits: 1; Number of Input Lines: 1; Number of Output Lines: 1; Number of Outputs: 1; Number of Channels: 1; Number of Inputs: 1; Number of Gates: 1; Termination: SMD/SMT; Length: 2.9mm; Width: 1.6mm; Height: 1.15mm; Radiation Hardening: No; Lead Free: Lead Free; RoHS Compliant: Yes; REACH SVHC: No SVHC; ComponentLink1URL: https://datasheet.ciiva.com/34301/756684-34301476.pdf?src-supplier=Jameco; ComponentLink1Description: https://datasheet.ciiva.com/34301/756684-34301476.pdf?src-supplier=Jameco; ComponentLink2URL: https://datasheet.ciiva.com/15094/getdatasheetpartid-189714-15094971.pdf?src-supplier=Verical; ComponentLink2Description: https://datasheet.ciiva.com/15094/getdatasheetpartid-189714-15094971.pdf?src-supplier=Verical; ComponentLink3URL: https://datasheet.ciiva.com/1833/sn74lvc1g17-1833621.pdf?src-supplier=Digi-Key; ComponentLink3Description: https://datasheet.ciiva.com/1833/sn74lvc1g17-1833621.pdf?src-supplier=Digi-Key; ComponentLink4URL: https://datasheet.ciiva.com/1833/sn74lvc1g17-1833622.pdf?src-supplier=Digi-Key; ComponentLink4Description: https://datasheet.ciiva.com/1833/sn74lvc1g17-1833622.pdf?src-supplier=Digi-Key; ComponentLink5URL: https://datasheet.ciiva.com/1833/sn74lvc1g17-1833623.pdf?src-supplier=Digi-Key; ComponentLink5Description: https://datasheet.ciiva.com/1833/sn74lvc1g17-1833623.pdf?src-supplier=Digi-Key; ComponentLink6URL: https://datasheet.ciiva.com/28594/1772570-28594805.pdf?src-supplier=Element14; ComponentLink6Description: https://datasheet.ciiva.com/28594/1772570-28594805.pdf?src-supplier=Element14; ComponentLink7URL: https://datasheet.ciiva.com/7744/1811088-7744197.pdf?src-supplier=Element14; ComponentLink7Description: https://datasheet.ciiva.com/7744/1811088-7744197.pdf?src-supplier=Element14; ComponentLink8URL: https://datasheet.ciiva.com/48702/001073974-da-01-en-ic-buffer-s-sn74lvc1g17dbvr-sot-23-5-tid-48702678.pdf?src-supplier=Conrad; ComponentLink8Description: https://datasheet.ciiva.com/48702/001073974-da-01-en-ic-buffer-s-sn74lvc1g17dbvr-sot-23-5-tid-48702678.pdf?src-supplier=Conrad; Supplier Part Number 1: 296-11933-1-ND; Manufacturer Part Number: SN74LVC1G17DBVR
footprint DBV-SOT-23 (SOT23, 5-Leads, Body 2.90x2.80mm, Pitch 0.95mm, IPC High Density)
pins: 1 NC, 2 A, 3 GND, 4 Y, 5 Vcc

## SN74LVC1G80DCK
designator U?
Flip Flop Inverted Output
footprint DCK-SC70-TI (SOT23, 5-Leads, Body 2.00x2.10mm, Pitch 0.65mm, IPC High Density)
pins: 1 D, 2 CLK, 3 GND, 4 ~{Q}, 5 Vcc

## STM32F301K6U6
designator U?
Manufacturer: STMicroelectronics; Manufacturer Part Number: STM32F301K6U6; Description 1: STMICROELECTRONICS   STM32F301K6U6   32 Bit Microcontroller, General Purpose, ARM Cortex-M4, 72 MHz, 32 KB, 16 KB, 32 Pins, UFQFPN; Interface: I2C,SPI,IrDA,UART,USART,LIN,I2S; Number of I/Os: 24; Frequency: 72MHz; Oscillator Type: Internal; Memory Type: FLASH; Memory Size: 32KB; Peripherals: POR,PWM,WDT,DMA; Core Architecture: ARM; RAM Size: 16KB; Max Power Dissipation: 540mW; Number of Timers/Counters: 8; Min Supply Voltage: 2V; Max Supply Voltage: 3.6V; Data Bus Width: 32b; Watchdog Timer: Yes; Supplier 1: Digi-Key; Supplier Part Number 1: 497-17410-ND; Stock: 3603; Pricing: 1=2.34, 10=2.104, 490=1.588, 980=1.3895, 1470=1.1513 (USD); Mount: Surface Mount; Case/Package: UFQFPN; Number of Pins: 32; Min Operating Temperature: -40°C; Max Operating Temperature: 85°C; Packaging: Tray; Number of Programmable I/O: 24; Max Frequency: 72MHz; Number of ADC Channels: 8; Package Quantity: 2940; Radiation Hardening: No; REACH SVHC: No SVHC; Lead Free: Lead Free; ComponentLink1URL: http://www.st.com/web/en/resource/technical/document/datasheet/DM00093332.pdf?src-supplier=Avnet; ComponentLink1Description: http://www.st.com/web/en/resource/technical/document/datasheet/DM00093332.pdf?src-supplier=Avnet; ComponentLink2URL: http://www.farnell.com/datasheets/1945638.pdf?src-supplier=Element14; ComponentLink2Description: http://www.farnell.com/datasheets/1945638.pdf?src-supplier=Element14
footprint QFN32 (QFN, 32-Leads, Body 5.00x5.00mm, Pitch 0.50mm, Thermal Pad 3.45x3.45mm, IPC High Density)
part A pins: 2 PF0/TIM1_CH3N (io), 3 PF1/OSC_OUT (io), 4 NRST (io), 7 PA0 (io), 8 PA1 (io), 9 PA2 (io), 10 PA3 (io), 11 PA4 (io), 12 PA5 (io), 13 PA6 (io), 14 PA7 (io), 15 PB0 (io), 18 PA8/TIM1_CH1 (io), 19 PA9/TIM1_CH2 (io), 20 PA10/TIM1_CH3 (io), 21 PA11TIM1_CH1N (io), 22 PA12/TIM1_CH2N (io), 23 PA13/SWDIO (io), 24 PA14/SWCLK (io), 25 PA15/SPI3_NSS (io), 26 PB3 (io), 27 PB4 (io), 28 PB5 (io), 29 PB6 (io), 30 PB7 (io), 31 BOOT0 (io)
part B pins: 1 VDD (power), 5 VDDA (power), 6 VSSA (power), 16 VSS (power), 17 VDD (power), 32 VSS (power), 33 PAD (power)

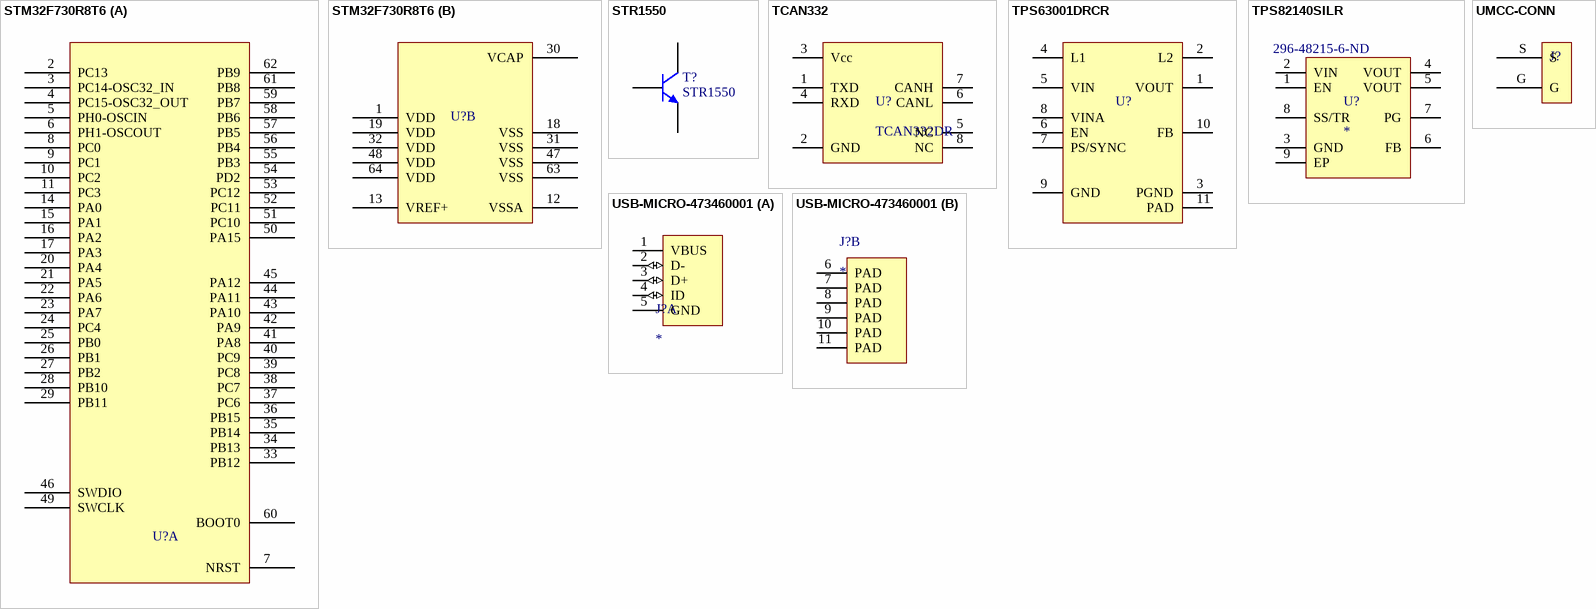
[diagram p1: symbols STM32F730R8T6 to USB-MICRO-473460001]

## STM32F730R8T6
designator U?
footprint QFP-64 (TSQFP, 64-Leads, Body 10.00x10.00mm, Pitch 0.50mm, IPC High Density)
part A pins: 2 PC13, 3 PC14-OSC32_IN, 4 PC15-OSC32_OUT, 5 PH0-OSCIN, 6 PH1-OSCOUT, 7 NRST, 8 PC0, 9 PC1, 10 PC2, 11 PC3, 14 PA0, 15 PA1, 16 PA2, 17 PA3, 20 PA4, 21 PA5, 22 PA6, 23 PA7, 24 PC4, 25 PB0, 26 PB1, 27 PB2, 28 PB10, 29 PB11, 33 PB12, 34 PB13, 35 PB14, 36 PB15, 37 PC6, 38 PC7, 39 PC8, 40 PC9, 41 PA8, 42 PA9, 43 PA10, 44 PA11, 45 PA12, 46 SWDIO, 49 SWCLK, 50 PA15, 51 PC10, 52 PC11, 53 PC12, 54 PD2, 55 PB3, 56 PB4, 57 PB5, 58 PB6, 59 PB7, 60 BOOT0, 61 PB8, 62 PB9
part B pins: 1 VDD, 12 VSSA, 13 VREF+, 18 VSS, 19 VDD, 30 VCAP, 31 VSS, 32 VDD, 47 VSS, 48 VDD, 63 VSS, 64 VDD

## STR1550
designator T?
pins: 1 B, 2 E, 3 C

## TCAN332
designator U?, comment TCAN332DR
Manufacturer: Texas Instruments; Description 1: TEXAS INSTRUMENTS         TCAN332DR             CAN Bus, 1, 1, 3 V, 3.6 V, SOIC; Receiver Hysteresis: 120mV; Data Rate: 1Mbps; Min Supply Voltage: 3V; Max Supply Voltage: 3.6V; Number of Transmit Buffers: 1; Supplier 1: Digi-Key; Supplier Part Number 1: 296-43711-1-ND; Manufacturer Part Number: TCAN332DR; RoHS: Yes; Category: Interface ICs; Stock: 14429; Pricing: 1=2.01000, 10=1.80200, 25=1.70000, 100=1.36000, 250=1.19000, 500=1.15600, 1000=0.91800 (USD); Mount: Surface Mount; Case/Package: SOIC; Number of Pins: 8; Min Operating Temperature: -40°C; Max Operating Temperature: 125°C; Packaging: Cut Tape; Number of Receive Buffers: 1; Lead Free: Lead Free; REACH SVHC: No SVHC; ComponentLink1URL: http://www.ti.com/lit/ds/symlink/tcan332.pdf?src-supplier=Digi-Key; ComponentLink1Description: http://www.ti.com/lit/ds/symlink/tcan332.pdf?src-supplier=Digi-Key; ComponentLink2URL: http://www.ti.com/lit/gpn/tcan332?src-supplier=Mouser; ComponentLink2Description: http://www.ti.com/lit/gpn/tcan332?src-supplier=Mouser; ComponentLink3URL: http://www.ti.com/general/docs/lit/getliterature.tsp?genericPartNumber=TCAN332&amp;&amp;fileType=pdf&src-supplier=Farnell; ComponentLink3Description: http://www.ti.com/general/docs/lit/getliterature.tsp?genericPartNumber=TCAN332&amp;&amp;fileType=pdf&src-supplier=Farnell; ComponentLink4URL: http://www.ti.com/general/docs/lit/getliterature.tsp?genericPartNumber=TCAN332&&fileType=pdf&src-supplier=Element14; ComponentLink4Description: http://www.ti.com/general/docs/lit/getliterature.tsp?genericPartNumber=TCAN332&&fileType=pdf&src-supplier=Element14
footprint SOIC8-D0008A (SOIC, 8-Leads, Body 4.91x3.90mm, Pitch 1.27mm, IPC High Density)
pins: 1 TXD (power), 2 GND (power), 3 Vcc (power), 4 RXD (power), 5 NC (power), 6 CANL (power), 7 CANH (power), 8 NC (power)

## TPS63001DRCR
designator U?  (value not drawn)
footprint DRC0010J (SON, 10-Leads, Body 3.00x3.00mm, Pitch 0.50mm, Thermal Pad 2.40x1.49mm, IPC High Density)
pins: 1 VOUT (power), 2 L2 (power), 3 PGND (power), 4 L1 (power), 5 VIN (power), 6 EN (power), 7 PS/SYNC (power), 8 VINA (power), 9 GND (power), 10 FB (power), 11 PAD (power)

## TPS82140SILR
designator U?  Supplier Part Number 1: 296-48215-6-ND
Manufacturer: Texas Instruments; Manufacturer Part Number: TPS82140SILR; Number of Outputs: 1; Min Input Voltage: 3V; Max Input Voltage: 17V; Voltage - Output 1: 6V; Max Output Current: 2A; Supplier 1: Digi-Key; Stock 1: 21201; Pricing 1: 1=3.48, 10=3.128, 100=2.5628, 500=2.1817, 1000=1.83999 (USD); Mount: Surface Mount; Min Operating Temperature: -40°C; Max Operating Temperature: 125°C; Features: OTP; Packaging: Tape and Reel
footprint USIP-8
pins: 1 EN, 2 VIN, 3 GND, 4 VOUT, 5 VOUT, 6 FB, 7 PG, 8 SS/TR, 9 EP

## UMCC-CONN
designator J?
footprint UMCC
pins: G, S

## USB-MICRO-473460001
designator J?
Manufacturer: Molex; Manufacturer Part Number 1: 47346-0001; Description 1: MOLEX         47346-0001             Micro-USB B Receptacle with Flange, Bottom Mount, SMT, Lead-Free; Number of Positions: 5; Current Rating: 1.8A; Gender: Female; Contact Resistance: 40mR; Voltage Rating (AC): 30V; Connector Type: Receptacle,USB; Number of Ports: 1; Contact Current Rating: 1A; USB Standard: USB 2.0; Pitch: 0.65mm; Glow Wire Compliant: Non-compliant; Supplier 1: Digi-Key; Supplier Part Number 1: WM17141DKR-ND; Stock: 44160; Pricing: 1=1.05, 10=0.921, 25=0.8664, 50=0.8304, 100=0.7942, 250=0.72204, 500=0.64984, 1000=0.57763 (USD); Mount: Surface Mount; Weight: 0.01lb; Housing Material: Polymer; Color: Black; Contact Plating: Gold; Contact Material: Copper,Copper Alloy; Number of Terminals: 5; Min Operating Temperature: -20°C; Max Operating Temperature: 85°C; Packaging: Tape and Reel; Number of Rows: 1; Number of Contacts: 5; Orientation: Right Angle; Termination: SMD/SMT; Number of Circuits: 5; Voltage Rating: 30V; Max Voltage Rating (AC): 30V; Length: 7.8mm; Height: 0.25inch; Width: 0.25inch; Lead Free: Lead Free; REACH SVHC: Unknown; Halogen Free: Low Halogen; ComponentLink1URL: http://uk.rs-online.com/webdocs/0dfe/0900766b80dfe0a7.pdf?src-supplier=RSComponents; ComponentLink1Description: http://uk.rs-online.com/webdocs/0dfe/0900766b80dfe0a7.pdf?src-supplier=RSComponents; ComponentLink2URL: http://www.onlinecomponents.com/productFiles/mf-MOL/1700180473460001_io_nectors.pdf?src-supplier=Onlinecomponents.com; ComponentLink2Description: http://www.onlinecomponents.com/productFiles/mf-MOL/1700180473460001_io_nectors.pdf?src-supplier=Onlinecomponents.com; ComponentLink3URL: http://www.mouser.com/ds/2/276/0473460001_IO_CONNECTORS-229243.pdf?src-supplier=Mouser; ComponentLink3Description: http://www.mouser.com/ds/2/276/0473460001_IO_CONNECTORS-229243.pdf?src-supplier=Mouser; ComponentLink4URL: http://www.alliedelec.com/m/d/a57987f38849b162876a932461489d29.pdf?src-supplier=Allied+Electronics; ComponentLink4Description: http://www.alliedelec.com/m/d/a57987f38849b162876a932461489d29.pdf?src-supplier=Allied+Electronics; ComponentLink5URL: http://www.molex.com/webdocs/datasheets/pdf/en-us/0473460001_IO_CONNECTORS.pdf?src-supplier=Element14; ComponentLink5Description: http://www.molex.com/webdocs/datasheets/pdf/en-us/0473460001_IO_CONNECTORS.pdf?src-supplier=Element14; ComponentLink6URL: http://www.farnell.com/datasheets/2124683.pdf?src-supplier=Element14; ComponentLink6Description: http://www.farnell.com/datasheets/2124683.pdf?src-supplier=Element14; ComponentLink7URL: http://www.farnell.com/datasheets/1681853.pdf?src-supplier=Element14; ComponentLink7Description: http://www.farnell.com/datasheets/1681853.pdf?src-supplier=Element14; ComponentLink8URL: http://www.farnell.com/datasheets/1630785.pdf?src-supplier=Element14; ComponentLink8Description: http://www.farnell.com/datasheets/1630785.pdf?src-supplier=Element14
footprint USB-MICRO-473460001
part A pins: 1 VBUS (power), 2 D- (io), 3 D+ (io), 4 ID (io), 5 GND (power)
part B pins: 6 PAD (power), 7 PAD (power), 8 PAD (power), 9 PAD (power), 10 PAD (power), 11 PAD (power)